# EAGLE library part FT230XS-U (library FT230XS-U)
USB Interface IC USB to Basic Serial UART IC SSOP-16 Source: Datasheet <https://www.ftdichip.com/Support/Documents/DataSheets/ICs/DS_FT230X.pdf>
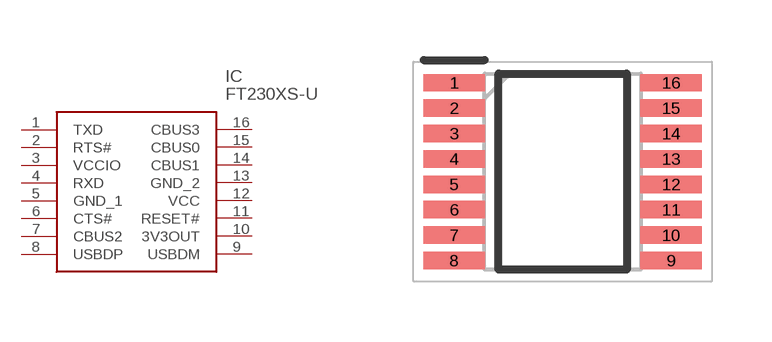
[diagram p0: symbol with the pads of SOP64P599X175-16N; footprint SOP64P599X175-16N]

Designator prefix IC

## FT230XS-U (Arrow_Part_Number: FT230XS-U; Arrow_Price-Stock: https://www.arrow.com/en/products/ft230xs-u/ftdi-chip; Description: USB Interface IC USB to Basic Serial UART IC SSOP-16; Height: 1.753mm; Manufacturer_Name: FTDI Chip; Manufacturer_Part_Number: FT230XS-U; Mouser_Part_Number: 895-FT230XS-U; Mouser_Price-Stock: https://www.mouser.co.uk/ProductDetail/FTDI/FT230XS-U?qs=Gp1Yz1mis3UZolxbXux7lw%3D%3D)  [SOP64P599X175-16N]
1  TXD
2  RTS#
3  VCCIO
4  RXD
5  GND_1
6  CTS#
7  CBUS2
8  USBDP
9  USBDM
10  3V3OUT
11  RESET#
12  VCC
13  GND_2
14  CBUS1
15  CBUS0
16  CBUS3

## Footprint SOP64P599X175-16N (pad centres in mm)
SSOP-16 (MO-137AB)
smd 1.526 x 0.435: 1 -2.712,2.222; 2 -2.712,1.588; 3 -2.712,0.952; 4 -2.712,0.318; 5 -2.712,-0.318; 6 -2.712,-0.952; 7 -2.712,-1.588; 8 -2.712,-2.222; 9 2.712,-2.222; 10 2.712,-1.588; 11 2.712,-0.952; 12 2.712,-0.318; 13 2.712,0.318; 14 2.712,0.952; 15 2.712,1.588; 16 2.712,2.222